# Altium footprint library RFM68LC.PcbLib: 1 footprints
Each footprint in its own frame and in the unit in brackets; x right, y up, seen from the top. Pads: shape width x height; smd on the part's side, far side on the other; paste and mask are expansions set on the pad; w line width, h text height; cw(c..) or ccw(c..) is an arc to the next point about the centre after c.
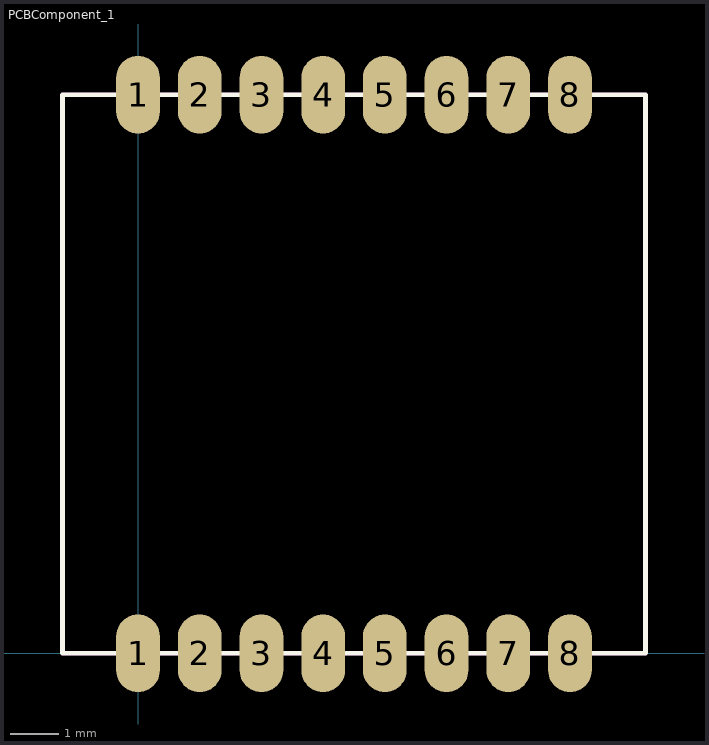
[diagram p0: the footprint, top view; thin cyan lines are the x and y axes]

## PCBComponent_1 [mm]
pads (16):
  oval 0.9x1.6 smd: 1(0,0) 1(0,11.5) 2(1.27,0) 2(1.27,11.5) 3(2.54,0) 3(2.54,11.5) 4(3.81,0) 4(3.81,11.5) 5(5.08,0) 5(5.08,11.5) 6(6.35,0) 6(6.35,11.5) 7(7.62,0) 7(7.62,11.5) 8(8.89,0) 8(8.89,11.5)
Top Overlay keep-out:
  lines w0.1: -1.555,0 -1.555,11.5 10.445,11.5 10.445,0 -1.555,0